# EAGLE library part USB-A_REC_4SH (library Domino)
USB-A Receptacle, 4 Shield Pads
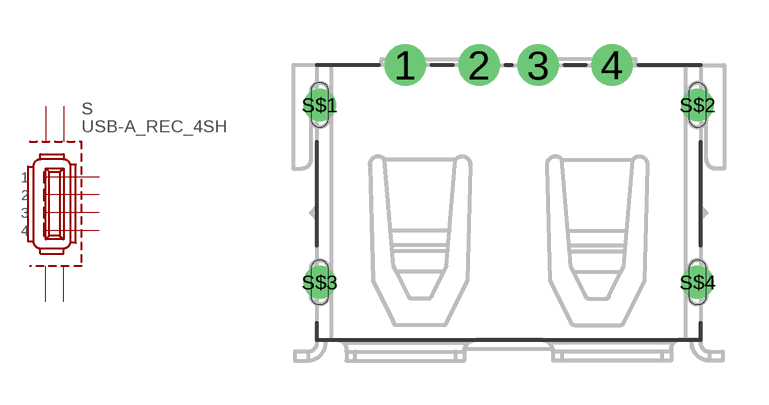
[diagram p46: symbol with the pads of USB-A_REC_TH_SHORT; footprint USB-A_REC_TH_SHORT]

Designator prefix S

## USB-A_REC_4SH  [USB-A_REC_TH_SHORT]
1  1  pas
2  2  pas
3  3  pas
4  4  pas
S$1  M1  pas
S$2  M2  pas
S$3  M3  pas
S$4  M4  pas

## Footprint USB-A_REC_TH_SHORT (pad centres in mm)
USB-A Receptacle, 4 Shield Pads, 10 mm Length
drill 0.9: 1 -3.5,0; 2 -1,0; 3 1,0; 4 3.5,0
drill 0.6: S$1 -6.4,-1.35; S$2 6.4,-1.35; S$3 -6.4,-7.35; S$4 6.4,-7.35